# Altium footprint library microB.PcbLib: 5 footprints
Each footprint in its own frame and in the unit in brackets; x right, y up, seen from the top. Pads: shape width x height; smd on the part's side, far side on the other; paste and mask are expansions set on the pad; w line width, h text height; cw(c..) or ccw(c..) is an arc to the next point about the centre after c.
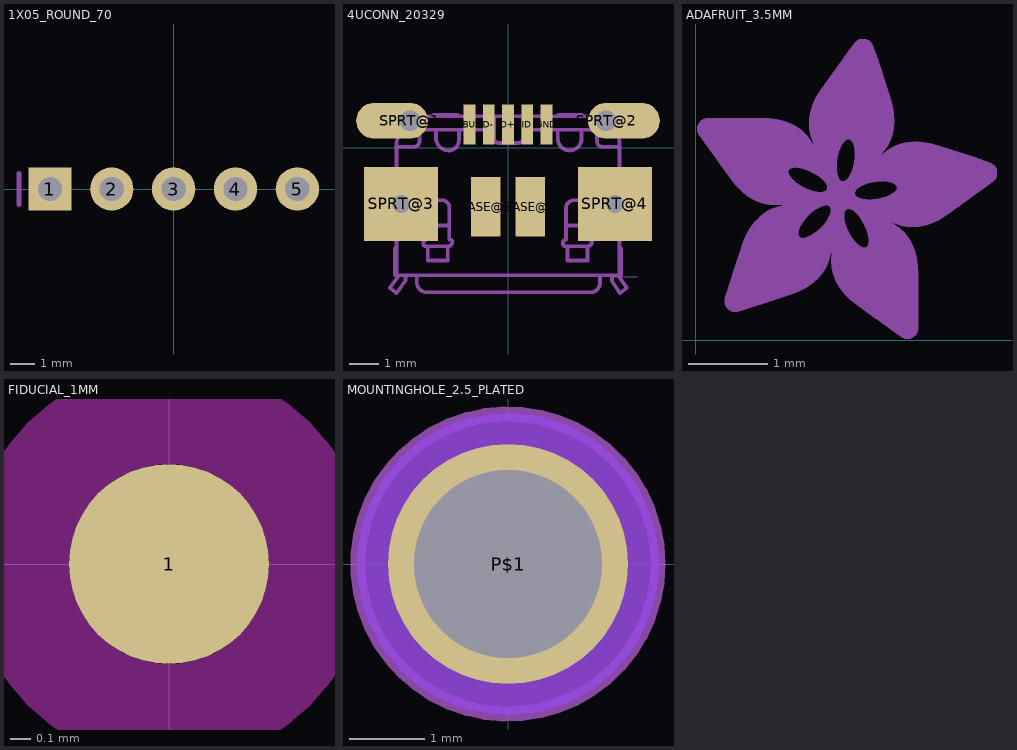
[diagram p0: the footprints below, top view; thin cyan lines are the x and y axes]

## 1X05_ROUND_70 [mil]
pads (5):
  rect 70x70 / inner round 0 / far side rect 70x70 hole 39.37: 1(-200,0)
  round 70 / inner round 0 / far side round 70 hole 39.37: 2(-100,0) 3(0,0) 4(100,0) 5(200,0)
Mechanical 3:
  region: 190,-10 190,10 210,10 210,-10
  region: -210,-10 -210,10 -190,10 -190,-10
  region: -110,-10 -110,10 -90,10 -90,-10
  region: -10,-10 -10,10 10,10 10,-10
  region: 90,-10 90,10 110,10 110,-10
  lines w8: -250,-25 -250,25
3D body: height 50, standoff 0, extent 164.7,-35.3 235.3,35.3
3D body: height 50, standoff 0, extent 64.7,-35.3 135.3,35.3
3D body: height 50, standoff 0, extent -35.3,-35.3 35.3,35.3
3D body: height 50, standoff 0, extent -135.3,-35.3 -64.7,35.3
3D body: height 50, standoff 0, extent -232.61,-32.61 -167.39,32.61
3D body: height 150, standoff 0, extent 190,-10 210,10
3D body: height 150, standoff 0, extent -210,-10 -190,10
3D body: height 150, standoff 0, extent -110,-10 -90,10
3D body: height 150, standoff 0, extent -10,-10 10,10
3D body: height 150, standoff 0, extent 90,-10 110,10
3D body: height 150, standoff 0, extent -254.33,-29.33 -245.67,29.33

## 4UCONN_20329 [mm]
pads (11):
  rect 1x2 smd: BASE@1(-0.75,-2) BASE@2(0.75,-2)
  rect 0.4x1.35 smd mask+0: D+(0,0.775) D-(-0.65,0.775) GND(1.3,0.775) ID(0.65,0.775) VBUS(-1.3,0.775)
  oval 2.416x1.208 / inner round 0 / far side oval 2.416x1.208 hole 0.7 copper offset -0.604,0: SPRT@1(-3.3,0.9)
  oval 2.416x1.208 / inner round 0 / far side oval 2.416x1.208 hole 0.7 copper offset 0.604,0: SPRT@2(3.3,0.9)
  rect 2.5x2.5 / inner round 0 / far side rect 2.5x2.5 hole 0.6: SPRT@3(-3.6,-1.9) SPRT@4(3.6,-1.9)
Top Paste:
  region: -4.85,-3.15 -4.85,-0.65 -2.35,-0.65 -2.35,-3.15
  region: 2.35,-3.15 2.35,-0.65 4.85,-0.65 4.85,-3.15
  region: -5.05,0.9 -5.045,0.786 -4.948,0.578 -4.78,0.423 -4.564,0.345 -4.45,0.35 -3.35,0.35 -3.236,0.345 -3.021,0.423 -2.852,0.578 -2.755,0.786 -2.75,0.9 -2.755,1.014 -2.852,1.222 -3.02,1.377 -3.236,1.455 -3.35,1.45 -4.45,1.45 -4.564,1.455 -4.78,1.377 -4.948,1.222 -5.045,1.014 -5.05,0.9
  region: 2.75,0.9 2.755,0.786 2.852,0.578 3.021,0.423 3.236,0.345 3.35,0.35 4.45,0.35 4.564,0.345 4.78,0.423 4.948,0.578 5.045,0.786 5.05,0.9 5.045,1.014 4.948,1.222 4.78,1.377 4.564,1.455 4.45,1.45 3.35,1.45 3.236,1.455 3.02,1.377 2.852,1.222 2.755,1.014 2.75,0.9
Top Solder:
  region: -1.55,0.05 -1.55,1.5 -1.05,1.5 -1.05,0.05
  region: -0.9,0.05 -0.9,1.5 -0.4,1.5 -0.4,0.05
  region: -0.25,0.05 -0.25,1.5 0.25,1.5 0.25,0.05
  region: 0.4,0.05 0.4,1.5 0.9,1.5 0.9,0.05
  region: 1.05,0.05 1.05,1.5 1.55,1.5 1.55,0.05
Mechanical 3:
  lines w0: 3.5,-4.35 4.35,-4.35
  lines w0.127: -3.725,0.025 -3.175,0.025 ccw(c-3.175,0.225) -2.975,0.225 -2.975,0.45 cw(c-2.825,0.45) -2.825,0.6 ; -3.425,0.625 -3.425,0.75 -3.575,0.75 -3.575,1.05 -0.475,1.05 ; -2,-3.325 -2.7,-3.325 ; -2,-2.625 -2.75,-2.625 ; -0.125,0.175 -0.125,0.65 0.1,0.65 0.1,0.175 ; 2.7,-3.325 2,-3.325 ; 2.7,-2.625 1.95,-2.625 ; 3.5,-4.35 3.5,-4.5 3.775,-4.9 4,-4.725 3.7,-4.3 ; 3.725,0.025 3.175,0.025 cw(c3.175,0.2) 3,0.2 3,0.525 ccw(c2.925,0.525) 2.925,0.6 ; -3.675,-4.3 -3.45,-4.3 ; -3.675,-4.3 -3.75,-4.3 -3.75,0.125 cw(c-3.275,0.125) -3.275,0.6 -2.825,0.6 ; -3.675,-4.3 -3.975,-4.725 -3.75,-4.9 -3.45,-4.475 -3.45,-4.3 ; -3.45,-4.3 -3.075,-4.3 ; -3.075,-4.3 3.1,-4.3 ; -3.075,-4.3 -3.075,-4.525 ccw(c-2.725,-4.525) -2.725,-4.875 2.775,-4.875 ccw(c2.775,-4.55) 3.1,-4.55 3.1,-4.3 ; -2.825,0.6 -2.5,0.6 ; -2.75,-2.625 -2.75,-3.1 ccw(c-2.75,-3.2) -2.85,-3.2 -2.85,-3.225 ccw(c-2.762,-3.238) -2.775,-3.325 -2.7,-3.325 ; -2.75,-2.625 -2.75,-2.05 cw(c-2.475,-2.05) -2.475,-1.775 -2.225,-1.775 cw(c-2.225,-2.025) -1.975,-2.025 -1.975,-3.1 -1.95,-3.1 cw(c-1.95,-3.175) -1.875,-3.175 cw(c-2.025,-3.175) -2.025,-3.325 -2.025,-3.8 -2.7,-3.8 -2.7,-3.325 ; -2.5,0.6 cw(c-2.5,0.525) -2.425,0.525 -2.425,0.325 ccw(c-2,0.325) -2,-0.1 ccw(c-2,0.25) -1.65,0.25 -1.65,0.6 ; -2.5,0.6 -1.65,0.6 ; -1.65,0.6 -0.475,0.6 ; -0.475,0.6 -0.475,0.325 ccw(c-0.3,0.325) -0.3,0.15 0.325,0.15 ccw(c0.325,0.35) 0.525,0.35 0.525,0.6 ; -0.475,0.6 -0.475,1.05 ; -0.475,1.05 0.525,1.05 ; 0.525,0.6 1.675,0.6 ; 0.525,0.6 0.525,1.05 ; 0.525,1.05 3.6,1.05 3.6,0.775 3.35,0.775 3.35,0.6 ; 1.675,0.6 2.475,0.6 ; 1.675,0.6 1.675,0.3 ccw(c2.075,0.3) 2.075,-0.1 ccw(c2.075,0.3) 2.475,0.3 2.475,0.6 ; 1.95,-2.625 1.95,-3.1 ccw(c1.95,-3.2) 1.85,-3.2 1.85,-3.225 ccw(c1.938,-3.237) 1.925,-3.325 2,-3.325 ; 1.95,-2.625 1.95,-2.05 cw(c2.225,-2.05) 2.225,-1.775 2.475,-1.775 cw(c2.475,-2.025) 2.725,-2.025 2.725,-3.1 2.75,-3.1 cw(c2.75,-3.175) 2.825,-3.175 cw(c2.675,-3.175) 2.675,-3.325 2.675,-3.8 2,-3.8 2,-3.325 ; 2.475,0.6 2.925,0.6 ; 2.925,0.6 3.35,0.6 ; 3.1,-4.3 3.7,-4.3 ; 3.35,0.6 cw(c3.35,0.2) 3.75,0.2 3.75,-4.3 3.7,-4.3
  text "PCB EDGE" at 0,-4 h0.63
Mechanical 7:
  lines w0.127: -3.8,-3.4 -3.8,-4.3 3.8,-4.3 3.8,-3.4 ; -2.5,1.1 -1.7,1.1 ; 1.7,1.1 2.5,1.1
3D body: height 3.81, standoff 0, extent 3.5,-4.35 4.35,-4.35
3D body: height 3.81, standoff 0, extent -2.844,-3.394 -2.631,-3.256
3D body: height 3.81, standoff 0, extent -2.927,-3.394 -2.706,-3.156
3D body: height 3.81, standoff 0, extent -2.919,-3.294 -2.781,-3.131
3D body: height 3.81, standoff 0, extent -2.919,-3.269 -2.681,-3.031
3D body: height 3.81, standoff 0, extent -2.819,-3.169 -2.681,-2.556
3D body: height 3.81, standoff 0, extent -2.819,-2.694 -2.681,-1.981
3D body: height 3.81, standoff 0, extent -2.82,-2.119 -2.406,-1.705
3D body: height 3.81, standoff 0, extent -2.544,-1.844 -2.156,-1.706
3D body: height 3.81, standoff 0, extent -2.294,-2.094 -1.905,-1.705
3D body: height 3.81, standoff 0, extent -2.044,-3.169 -1.906,-1.956
3D body: height 3.81, standoff 0, extent -2.044,-3.169 -1.881,-3.031
3D body: height 3.81, standoff 0, extent -2.019,-3.244 -1.8,-3.025
3D body: height 3.81, standoff 0, extent -2.094,-3.394 -1.806,-3.106
3D body: height 3.81, standoff 0, extent -2.094,-3.869 -1.956,-3.256
3D body: height 3.81, standoff 0, extent -2.769,-3.869 -1.956,-3.731
3D body: height 3.81, standoff 0, extent -2.769,-3.869 -2.631,-3.256
3D body: height 3.81, standoff 0, extent -2.819,-2.694 -1.931,-2.556
3D body: height 3.81, standoff 0, extent -2.769,-3.394 -1.931,-3.256
3D body: height 3.81, standoff 0, extent -3.744,-4.369 -3.381,-4.231
3D body: height 3.81, standoff 0, extent -3.519,-4.369 -3.006,-4.231
3D body: height 3.81, standoff 0, extent -3.144,-4.369 3.169,-4.231
3D body: height 3.81, standoff 0, extent 3.031,-4.369 3.769,-4.231
3D body: height 3.81, standoff 0, extent 3.631,-4.369 3.819,-4.231
3D body: height 3.81, standoff 0, extent 3.681,-4.369 3.819,0.269
3D body: height 3.81, standoff 0, extent 3.281,0.131 3.823,0.673
3D body: height 3.81, standoff 0, extent 2.856,0.531 3.419,0.669
3D body: height 3.81, standoff 0, extent 1.606,0.531 2.544,0.669
3D body: height 3.81, standoff 0, extent 0.456,0.531 1.744,0.669
3D body: height 3.81, standoff 0, extent 0.456,0.281 0.594,0.669
3D body: height 3.81, standoff 0, extent 0.256,0.081 0.594,0.419
3D body: height 3.81, standoff 0, extent -0.369,0.081 0.394,0.219
3D body: height 3.81, standoff 0, extent -0.544,0.081 -0.231,0.394
3D body: height 3.81, standoff 0, extent -0.544,0.256 -0.406,0.669
3D body: height 3.81, standoff 0, extent -1.719,0.531 -0.406,0.669
3D body: height 3.81, standoff 0, extent -2.569,0.531 -1.581,0.669
3D body: height 3.81, standoff 0, extent -3.344,0.531 -2.756,0.669
3D body: height 3.81, standoff 0, extent -3.824,0.056 -3.206,0.674
3D body: height 3.81, standoff 0, extent -3.819,-4.369 -3.681,0.194
3D body: height 3.81, standoff 0, extent -3.819,-4.369 -3.606,-4.231
3D body: height 3.81, standoff 0, extent -3.794,-0.044 -3.106,0.094
3D body: height 3.81, standoff 0, extent -3.244,-0.044 -2.906,0.294
3D body: height 3.81, standoff 0, extent -3.044,0.156 -2.906,0.519
3D body: height 3.81, standoff 0, extent -3.044,0.381 -2.756,0.669
3D body: height 3.81, standoff 0, extent -2.894,0.531 -2.431,0.669
3D body: height 3.81, standoff 0, extent -2.569,0.456 -2.35,0.675
3D body: height 3.81, standoff 0, extent -2.494,0.256 -2.356,0.594
3D body: height 3.81, standoff 0, extent -2.498,-0.173 -1.931,0.394
3D body: height 3.81, standoff 0, extent -2.069,-0.172 -1.578,0.319
3D body: height 3.81, standoff 0, extent -1.719,0.181 -1.581,0.669
3D body: height 3.81, standoff 0, extent 1.606,0.231 1.744,0.669
3D body: height 3.81, standoff 0, extent 1.602,-0.173 2.144,0.369
3D body: height 3.81, standoff 0, extent 2.006,-0.173 2.548,0.369
3D body: height 3.81, standoff 0, extent 2.406,0.231 2.544,0.669
3D body: height 3.81, standoff 0, extent 2.406,0.531 2.994,0.669
3D body: height 3.81, standoff 0, extent 2.856,0.456 3.075,0.675
3D body: height 3.81, standoff 0, extent 2.931,0.131 3.069,0.594
3D body: height 3.81, standoff 0, extent 2.931,-0.044 3.244,0.269
3D body: height 3.81, standoff 0, extent 3.106,-0.044 3.794,0.094
3D body: height 3.81, standoff 0, extent -3.494,0.556 -3.356,0.819
3D body: height 3.81, standoff 0, extent -3.644,0.681 -3.356,0.819
3D body: height 3.81, standoff 0, extent -3.644,0.681 -3.506,1.119
3D body: height 3.81, standoff 0, extent -3.644,0.981 -0.406,1.119
3D body: height 3.81, standoff 0, extent 0.456,0.981 3.669,1.119
3D body: height 3.81, standoff 0, extent 3.531,0.706 3.669,1.119
3D body: height 3.81, standoff 0, extent 3.281,0.706 3.669,0.844
3D body: height 3.81, standoff 0, extent 3.281,0.531 3.419,0.844
3D body: height 3.81, standoff 0, extent -0.544,0.531 -0.406,1.119
3D body: height 3.81, standoff 0, extent -0.544,0.981 0.594,1.119
3D body: height 3.81, standoff 0, extent 0.456,0.531 0.594,1.119
3D body: height 3.81, standoff 0, extent -0.194,0.106 -0.056,0.719
3D body: height 3.81, standoff 0, extent -0.194,0.581 0.169,0.719
3D body: height 3.81, standoff 0, extent 0.031,0.106 0.169,0.719
3D body: height 3.81, standoff 0, extent -3.144,-4.594 -3.006,-4.231
3D body: height 3.81, standoff 0, extent -3.147,-4.947 -2.656,-4.456
3D body: height 3.81, standoff 0, extent -2.794,-4.944 2.844,-4.806
3D body: height 3.81, standoff 0, extent 2.706,-4.946 3.171,-4.481
3D body: height 3.81, standoff 0, extent 3.031,-4.619 3.169,-4.231
3D body: height 3.81, standoff 0, extent -4.043,-4.793 -3.607,-4.232
3D body: height 3.81, standoff 0, extent -4.043,-4.968 -3.682,-4.657
3D body: height 3.81, standoff 0, extent -3.818,-4.968 -3.382,-4.407
3D body: height 3.81, standoff 0, extent -3.519,-4.544 -3.381,-4.231
3D body: height 3.81, standoff 0, extent 3.632,-4.793 4.068,-4.232
3D body: height 3.81, standoff 0, extent 3.707,-4.968 4.068,-4.657
3D body: height 3.81, standoff 0, extent 3.433,-4.967 3.843,-4.433
3D body: height 3.81, standoff 0, extent 3.431,-4.569 3.569,-4.281
3D body: height 3.81, standoff 0, extent 1.856,-3.394 2.069,-3.256
3D body: height 3.81, standoff 0, extent 1.773,-3.394 1.994,-3.156
3D body: height 3.81, standoff 0, extent 1.781,-3.294 1.919,-3.131
3D body: height 3.81, standoff 0, extent 1.781,-3.269 2.019,-3.031
3D body: height 3.81, standoff 0, extent 1.881,-3.169 2.019,-2.556
3D body: height 3.81, standoff 0, extent 1.881,-2.694 2.019,-1.981
3D body: height 3.81, standoff 0, extent 1.88,-2.119 2.294,-1.705
3D body: height 3.81, standoff 0, extent 2.156,-1.844 2.544,-1.706
3D body: height 3.81, standoff 0, extent 2.406,-2.094 2.795,-1.705
3D body: height 3.81, standoff 0, extent 2.656,-3.169 2.794,-1.956
3D body: height 3.81, standoff 0, extent 2.656,-3.169 2.819,-3.031
3D body: height 3.81, standoff 0, extent 2.681,-3.244 2.9,-3.025
3D body: height 3.81, standoff 0, extent 2.606,-3.394 2.894,-3.106
3D body: height 3.81, standoff 0, extent 2.606,-3.869 2.744,-3.256
3D body: height 3.81, standoff 0, extent 1.931,-3.869 2.744,-3.731
3D body: height 3.81, standoff 0, extent 1.931,-3.869 2.069,-3.256
3D body: height 3.81, standoff 0, extent 1.881,-2.694 2.769,-2.556
3D body: height 3.81, standoff 0, extent 1.931,-3.394 2.769,-3.256
3D body: height 3.81, standoff 0, extent -1.55,0.05 -1.05,1.5
3D body: height 3.81, standoff 0, extent -0.9,0.05 -0.4,1.5
3D body: height 3.81, standoff 0, extent -0.25,0.05 0.25,1.5
3D body: height 3.81, standoff 0, extent 0.4,0.05 0.9,1.5
3D body: height 3.81, standoff 0, extent 1.05,0.05 1.55,1.5
3D body: height 3.81, standoff 0, extent -4.85,-3.15 -2.35,-0.65
3D body: height 3.81, standoff 0, extent 2.35,-3.15 4.85,-0.65
3D body: height 3.81, standoff 0, extent -5.05,0.345 -2.75,1.455
3D body: height 3.81, standoff 0, extent 2.75,0.345 5.05,1.455
3D body: height 1.27, standoff 0, extent -1.5,0.1 -1.1,1.45
3D body: height 1.27, standoff 0, extent -0.85,0.1 -0.45,1.45
3D body: height 1.27, standoff 0, extent -0.2,0.1 0.2,1.45
3D body: height 1.27, standoff 0, extent 0.45,0.1 0.85,1.45
3D body: height 1.27, standoff 0, extent 1.1,0.1 1.5,1.45
3D body: height 1.27, standoff 0, extent -1.25,-3 -0.25,-1
3D body: height 1.27, standoff 0, extent 0.25,-3 1.25,-1
3D body: height 1.27, standoff 0, extent 2.435,-3.065 4.765,-0.735
3D body: height 1.27, standoff 0, extent -4.765,-3.065 -2.435,-0.735
3D body: height 1.27, standoff 0, extent -5.124,0.284 -2.684,1.516
3D body: height 1.27, standoff 0, extent 2.684,0.284 5.124,1.516

## ADAFRUIT_3.5MM [mm]
Mechanical 7:
  drawing of 1122 lines, arcs and shapes, not listed

## FIDUCIAL_1MM [mm]
pads (1):
  rrect100% 1x1 smd paste+0: 1(0,0)
Top Layer keep-out:
  lines w0.5: -0.75,0 cw(c0,0) 0,0.75 ; -0.75,0 ccw(c0,0) 0,-0.75 ; -0.75,0 cw(c0,0) 0,0.75 ; -0.75,0 ccw(c0,0) 0,-0.75 ; 0,-0.75 ccw(c0,0) 0.75,0 ; 0,-0.75 ccw(c0,0) 0.75,0 ; 0,0.75 cw(c0,0) 0.75,0 ; 0,0.75 cw(c0,0) 0.75,0
Top Solder:
  lines w0.5: -0.75,0 cw(c0,0) 0,0.75 cw(c0,0) 0.75,0 cw(c0,0) 0,-0.75 cw(c0,0) -0.75,0
3D body: height 3.81, standoff 0, extent -1.009,-0.255 0.255,1.009
3D body: height 3.81, standoff 0, extent -0.255,-0.255 1.009,1.009
3D body: height 3.81, standoff 0, extent -0.255,-1.009 1.009,0.255
3D body: height 3.81, standoff 0, extent -1.009,-1.009 0.255,0.255
3D body: height 3.81, standoff 0, extent -1.009,-0.255 0.255,1.009
3D body: height 3.81, standoff 0, extent -0.255,-0.255 1.009,1.009
3D body: height 3.81, standoff 0, extent -0.255,-1.009 1.009,0.255
3D body: height 3.81, standoff 0, extent -1.009,-1.009 0.255,0.255
3D body: height 3.81, standoff 0, extent -1.009,-0.255 0.255,1.009
3D body: height 3.81, standoff 0, extent -0.255,-0.255 1.009,1.009
3D body: height 3.81, standoff 0, extent -0.255,-1.009 1.009,0.255
3D body: height 3.81, standoff 0, extent -1.009,-1.009 0.255,0.255
3D body: height 1.27, standoff 0, extent -0.51,-0.51 0.51,0.51

## MOUNTINGHOLE_2.5_PLATED [mm]
pads (1):
  round 3.2 / inner round 0 / far side round 3.2 hole 2.5: P$1(0,0)
Top Layer keep-out:
  circle w2.032: c0,0 r1
  circle w2.032: c0,0 r1
Bottom Layer keep-out:
  circle w2.032: c0,0 r1
  circle w2.032: c0,0 r1
Mechanical 7:
  circle w0.203: c0,0 r2
3D body: height 3.81, standoff 0, extent -2.026,-2.026 2.026,2.026
3D body: height 3.81, standoff 0, extent -2.026,-2.026 2.026,2.026
3D body: height 1.27, standoff 0, extent -1.608,-1.608 1.608,1.608